# EAGLE library part TFT-DISPLAY-1.8 (library tftdisplays)
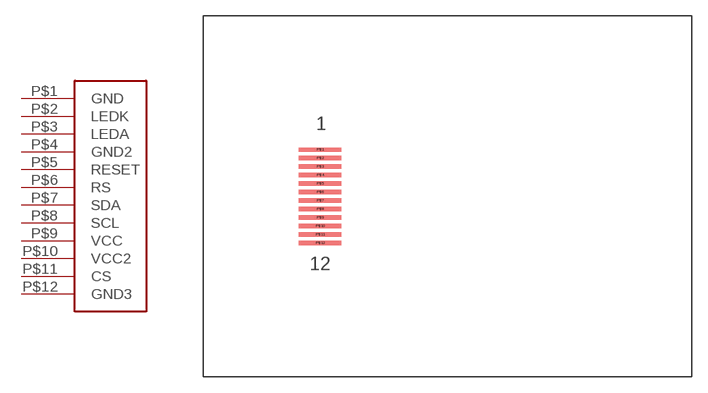
[diagram p0: symbol with the pads of TFT-DISPLAY-1.8; footprint TFT-DISPLAY-1.8]

Designator prefix -

## TFT-DISPLAY-1.8  [TFT-DISPLAY-1.8]
P$1  GND
P$2  LEDK
P$3  LEDA
P$4  GND2
P$5  RESET
P$6  RS
P$7  SDA
P$8  SCL
P$9  VCC
P$10  VCC2
P$11  CS
P$12  GND3

## Footprint TFT-DISPLAY-1.8 (pad centres in mm)
1.8" Display
smd 4 x 0.4: P$1 -12,4.4; P$2 -12,3.6; P$3 -12,2.8; P$4 -12,2; P$5 -12,1.2; P$6 -12,0.4; P$7 -12,-0.4; P$8 -12,-1.2; P$9 -12,-2; P$10 -12,-2.8; P$11 -12,-3.6; P$12 -12,-4.4